# Altium schematic symbol library ICs.SchLib: 88 symbols (part 2 of 2)
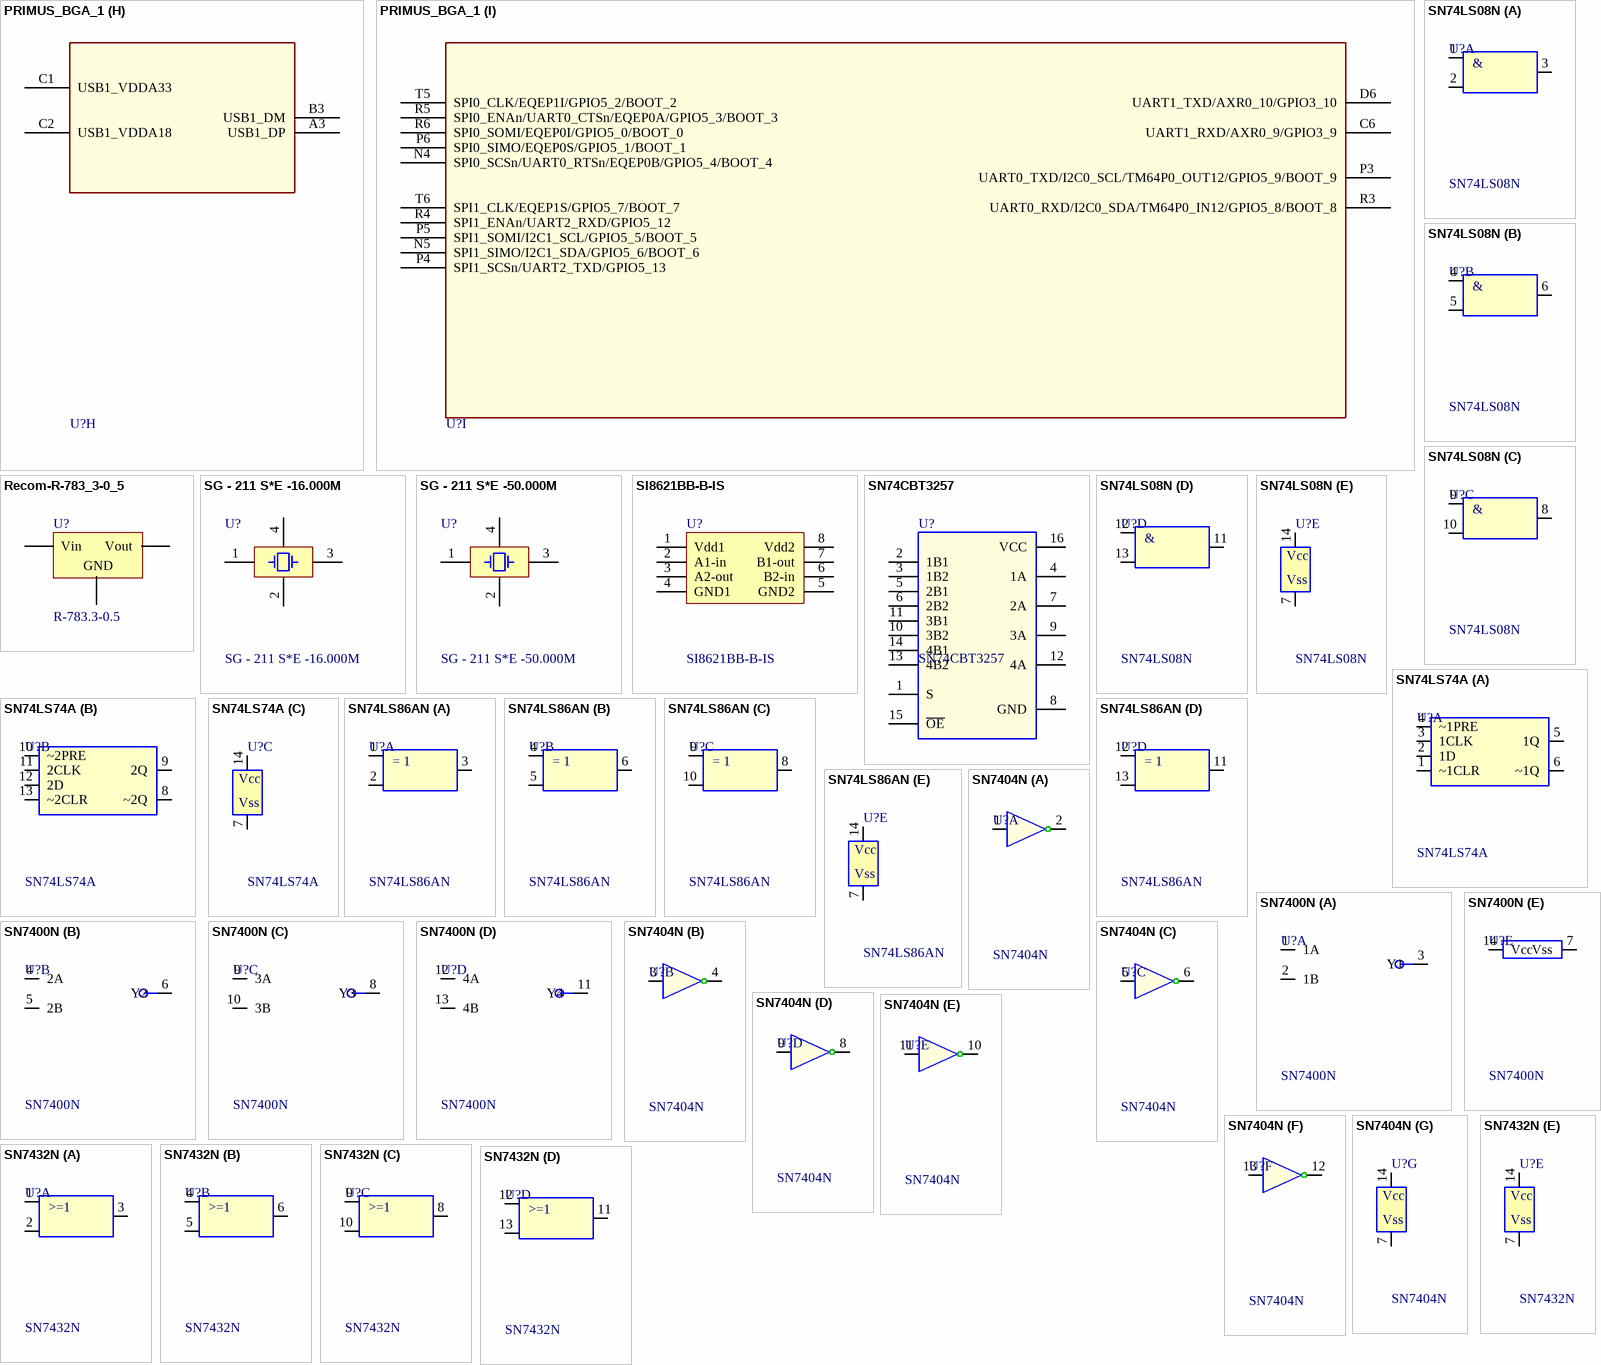
[diagram p10: symbols PRIMUS_BGA_1 to SN7432N]

## PRIMUS_BGA_1
designator U?
SWAP_INFO: (S1+S2+S3+S4+S5+S6+S7+S8+S9); SPLIT_INST: TRUE
footprint SKT256-6064
part A pins: A1 VSS.13 (power), A2 VSS.14 (power), A15 VSS.15 (power), A16 VSS.16 (power), B2 VSS.12 (power), E6 VSS.8 (power), E7 VSS.9 (power), E10 VSS.10 (power), E11 VSS.11 (power), F8 VSS.5 (power), F9 VSS.6 (power), F10 VSS.7 (power), G8 VSS.3 (power), G9 VSS.4 (power), H8 VSS.1 (power), H9 VSS.2 (power), J8 VSS.19 (power), J9 VSS.20 (power), K8 VSS.17 (power), K9 VSS.18 (power), L7 VSS.21 (power), L8 VSS.22 (power), L9 VSS.23 (power), L10 VSS.24 (power), M6 VSS.25 (power), M7 VSS.26 (power), M10 VSS.27 (power), M11 VSS.28 (power), T1 VSS.29 (power), T2 VSS.30 (power), T15 VSS.31 (power), T16 VSS.32 (power)
part B pins: B1 RSV2 (power), B16 DVDD.21 (power), D1 PLL0_VDDA (power), E1 PLL0_VSSA (power), E5 DVDD.17 (power), E8 DVDD.18 (power), E9 DVDD.19 (power), E12 DVDD.20 (power), F5 DVDD.14 (power), F6 CVDD.18 (power), F7 RSV1, F11 DVDD.15 (power), F12 DVDD.16 (power), G5 DVDD.12 (power), G6 CVDD.14 (power), G7 CVDD.15 (power), G10 CVDD.16 (power), G11 CVDD.17 (power), G12 DVDD.13 (power), H6 CVDD.19 (power), H7 CVDD.11 (power), H10 CVDD.12 (power), H11 CVDD.13 (power), H12 CVDD.20 (power), J6 CVDD.6 (power), J7 CVDD.7 (power), J10 CVDD.8 (power), J11 CVDD.9 (power), J12 CVDD.10 (power), K5 DVDD.10 (power), K6 CVDD.2 (power), K7 CVDD.3 (power), K10 CVDD.4 (power), K11 CVDD.5 (power), K12 DVDD.11 (power), L5 DVDD.7 (power), L6 CVDD.1 (power), L11 DVDD.8 (power), L12 DVDD.9 (power), M5 DVDD.3 (power), M8 DVDD.4 (power), M9 DVDD.5 (power), M12 DVDD.6 (power), R1 DVDD.1 (power), R16 DVDD.2 (power)
part C pins: L16 EMA_CASn/EMA_CS4n/GPIO2_1, M13 EMA_WE/UHPI_HRWn/AXR0_12/GPIO2_3/BOOT_14, M14 EMA_WE_DQM0n/UHPI_HINTn/AXR0_15/GPIO2_9, M15 EMA_D7/MMCSD_DAT7/UHPI_HD7/GPIO0_7/BOOT_13, M16 EMA_D15/UHPI_HD15/LCD_D15/GPIO0_15, N6 EMA_WAIT0/UHPIHRDYn/GPIO2_10, N7 EMA_RASn/EMA_CS5n/GPIO2_2, N8 EMA_A10/LCD_VSYNC/GPIO1_10, N9 EMA_A3/LCD_D6/GPIO1_3, N10 EMA_A7/LCD_D0/GPIO1_7, N11 EMA_A12/LCD_MCLK/GPIO1_12, N12 EMA_D8/UHPI_HD8/LCD_D8/GPIO0_8, N13 EMA_D6/MMCSD_DAT6/UHPI_HD6/GPIO0_6, N14 EMA_D14/UHPI_HD14/LCD_D14/GPIO0_14, N15 EMA_D5/MMCSD_DAT5/UHPI_HD5/GPIO0_5, N16 EMA_D13/UHPI_HD13/LCD_D13/GPIO0_13, P7 EMA_CS2n/UHPI_HCSn/GPIO2_5/BOOT_15, P8 EMA_BA1/LCD_D5/UHPI_HHWIL/GPIO1_13, P9 EMA_A2/MMCSD_CMD/UHPI_HCNTL1/GPIO1_2, P10 EMA_A6/LCD_D1/GPIO1_6, P11 EMA_A11/LCD_ACn/ENB_CSn/GPIO1_11, P12 EMA_WE_DQM1n/UHPI_HDS2n/AXR0_14/GPIO2_8, P13 EMA_D4/MMCSD_DAT4/UHPI_HD4/GPIO0_4, P14 EMA_D12/UHPI_HD12/LCD_D12/GPIO0_12, P15 EMA_D3/MMCSD_DAT3/UHPI_HD3/GPIO0_3, P16 EMA_D11/UHPI_HD11/LCD_D11/GPIO0_11, R7 EMA_OEn/UHPI_HDS1n/AXR0_13/GPIO2_7, R8 EMA_BA0/LCD_D4/GPIO1_14, R9 EMA_A1/MMCSD_CLK/UHPI_HCNTL0/GPIO1_1, R10 EMA_A5/LCD_D2/GPIO1_5, R11 EMA_A9/LCD_HSYNC/GPIO1_9, R12 EMA_CLK/OBSCLK/AHCLKR2/GPIO1_15, R13 EMA_D2/MMCSD_DAT2/UHPI_HD2/GPIO0_2, R14 EMA_D10/UHPI_HD_10/LCD_D10/GPIO0_10, R15 EMA_D1/MMCSD_DAT1/UHPI_HD1/GPIO0_1, T7 EMA_CS3n/AMUTE2/GPIO2_6, T8 EMA_CS0n/UHPIHASn/GPIO2_4, T9 EMA_A0/LCD_D7/GPIO1_0, T10 EMA_A4/LCD_D3/GPIO1_4, T11 EMA_A8/LCD_PCLK/GPIO1_8, T12 EMA_SDCKE/GPIO2_0, T13 EMA_D0/MMCSD_DAT0/UHPI_HD0/GPIO00/BOOT_12, T14 EMA_D9/UHPI_HD9/LCD_D9/GPIO0_9
part D pins: A8 EMB_RASn, A9 EMB_A10/GPIO7_12, A10 EMB_A3/GPIO7_5, A11 EMB_A7/GPIO7_9, A12 EMB_WE_DQM3n, A13 EMB_D24, A14 EMB_D26, B9 EMB_BA1/GPIO7_0, B10 EMB_A2/GPIO7_4, B11 EMB_A6/GPIO7_8, B12 EMB_A11/GPIO7_13, B13 EMB_WE_DQM2n, B14 EMB_D25, B15 EMB_A12/GPIO3_13, C9 EMB_BA0/GPIO7_1, C10 EMB_A1/GPIO7_3, C11 EMB_A5/GPIO7_7, C12 EMB_A9/GPIO7_11, C13 EMB_SDCKE, C14 EMB_CLK, C15 EMB_WE_DQM1n/GPIO5_14, C16 EMB_D8/GPIO6_8, D9 EMB_CS0n, D10 EMB_A0/GPIO7_2, D11 EMB_A4/GPIO7_6, D12 EMB_A8/GPIO7_10, D13 EMB_D9/GPIO6_9, D14 EMB_D10/GPIO6_10, D15 EMB_D11/GPIO6_11, D16 EMB_D12/GPIO6_12, E13 EMB_D13/GPIO6_13, E14 EMB_D27, E15 EMB_D28, E16 EMB_D14/GPIO6_14, F13 EMB_D15/GPIO6_15, F14 EMB_D29, F15 EMB_D30, F16 EMB_D0/GPIO6_0, G13 EMB_D1/GPIO6_1, G14 EMB_D31, G15 EMB_D16, G16 EMB_D2/GPIO6_2, H13 EMB_D3/GPIO6_3, H14 EMB_D17, H15 EMB_D18, H16 EMB_D4/GPIO6_4, J13 EMB_D5/GPIO6_5, J14 EMB_D19, J15 EMB_D6/GPIO6_6, J16 EMB_D7/GPIO6_7, K13 EMB_D20, K14 EMB_WE_DQM0n/GPIO5_15, K15 EMB_WEn, K16 EMB_D21, L13 EMB_CASn, L14 EMB_D22, L15 EMB_D23
part E pins: E2 OSCVSS (power), F1 OSCOUT, F2 OSCIN, G1 RTC_CVDD (power), G2 RTC_VSS (power), G3 ~{RESET}, H1 RTC_XI, H2 RTC_XO, H3 TCK, J1 TMS, J2 TDI, J3 TDO, J4 ~{TRST}, J5 EMU_0/GPIO7_15, K1 RTCK/GPIO7_14
part F pins: A4 AHCLKR0/RMII_MHZ_50CLK/GPIO2_14/BOOT_11, A5 AXR0_11/AXR2_0/GPIO3_11, A6 AXR0_7/MDIO_CLK/GPIO3_7, A7 AXR0_3/RMII_CRS_DV/AXR2_2/GPIO3_3, B4 ACLKR0/ECAP1/APWM1/GPIO2_15, B5 AHCLKX0/AHCLKX2/USB_REFCLKIN/GPIO2_11, B6 AXR0_8/MDIO_D/GPIO3_8, B7 AXR0_4/RMII_RXD_0/AXR2_1/GPIO3_4, B8 AXR0_0/RMII_TXD0/AFSR2/GPIO3_0, C4 AFSR0/GPIO3_12, C5 ACLKX0/ECAP0/APWM0/GPIO2_12, C7 AXR0_5/RMII_RXD1/AFSX2/GPIO3_5, C8 AXR0_1/RMII_TXD1/ACLKX2/GPIO3_1, D4 AMUTE1/EHRPWMTZ/GPIO4_14, D5 AFSX0/GPIO2_13/BOOT_10, D7 AXR0_6/RMII_RXER/ACLKR2/GPIO3_6, D8 AXR0_2/RMII_TXEN/AXR2_3/GPIO3_2, K2 AHCLKX1/EPWM0B/GPIO3_14, K3 ACLKX1/EPWM0A/GPIO3_15, K4 AFSX1/EPWMSYNCI/EPWMSYNC0/GPIO4_10, L1 AHCLKR1/GPIO4_11, L2 ACLKR1/ECAP2/APWM2/GPIO4_12, L3 AFSR1/GPIO4_13, L4 AMUTE0__~{RESETOUT}, M1 AXR1_9/GPIO4_9, M2 AXR1_8/EPWM1A/GPIO4_8, M3 AXR1_7/EPWM1B/GPIO4_7, M4 AXR1_6/EPWM2A/GPIO4_6, N1 AXR1_5/EPWM2B/GPIO4_5, N2 AXR1_4/EQEP1B/GPIO4_4, N3 AXR1_10__GPIO5_10, P1 AXR1_3/EQEP1A/GPIO4_3, P2 AXR1_2/GPIO4_2, R2 AXR1_1/GPIO4_1, T3 AXR1_0/GPIO4_0, T4 AXR1_11/GPIO5_11
part G pins: C3 USB0_VDDA12, D2 USB0_ID, D3 USB0_VBUS, E3 USB0_VDDA18, E4 USB0_DRVVBUS/GPIO4_15, F3 USB0_VSSA, F4 USB0_DP, G4 USB0_DM, H4 USB0_VSSA33, H5 USB0_VDDA33
part H pins: A3 USB1_DP, B3 USB1_DM, C1 USB1_VDDA33, C2 USB1_VDDA18
part I pins: C6 UART1_RXD/AXR0_9/GPIO3_9, D6 UART1_TXD/AXR0_10/GPIO3_10, N4 SPI0_SCSn/UART0_RTSn/EQEP0B/GPIO5_4/BOOT_4, N5 SPI1_SIMO/I2C1_SDA/GPIO5_6/BOOT_6, P3 UART0_TXD/I2C0_SCL/TM64P0_OUT12/GPIO5_9/BOOT_9, P4 SPI1_SCSn/UART2_TXD/GPIO5_13, P5 SPI1_SOMI/I2C1_SCL/GPIO5_5/BOOT_5, P6 SPI0_SIMO/EQEP0S/GPIO5_1/BOOT_1, R3 UART0_RXD/I2C0_SDA/TM64P0_IN12/GPIO5_8/BOOT_8, R4 SPI1_ENAn/UART2_RXD/GPIO5_12, R5 SPI0_ENAn/UART0_CTSn/EQEP0A/GPIO5_3/BOOT_3, R6 SPI0_SOMI/EQEP0I/GPIO5_0/BOOT_0, T5 SPI0_CLK/EQEP1I/GPIO5_2/BOOT_2, T6 SPI1_CLK/EQEP1S/GPIO5_7/BOOT_7

## Recom-R-783_3-0_5
designator U?, comment R-783.3-0.5
Voltage Regulator; Manufacturer: Recom; Deliverer PartNr: 532-8044; TDE-PN: IC0032; Deliverer: RS-Components; Published: 12.02.2014; Manufacturer PartNr: R-783.3-0.5; PackageDescription: R-783_3-0_5/D-PACK; Publisher: Sebastian Kulik
footprint R-783_3-0_5 (Recon DC-DC)
pins: 1 Vin, 2 GND, 3 Vout

## SG - 211 S*E -16.000M
designator U?
Crystal; Deliverer PartNr: 2405755; Manufacturer PartNr: X1G0036210032; Manufacturer: Epson; Deliverer: Farnell; TDE-PN: IC0061; Published: 11.12.2014; PackageDescription: SG-221 S*E; Publisher: Sebastian Kulik
footprint SG - 211 S*E
pins: 1 E/D, 2 GND, 3 OSC2, 4 VCC

## SG - 211 S*E -50.000M
designator U?
Crystal; Deliverer PartNr: 2405766RL; Manufacturer PartNr: X1G0036210074; Manufacturer: Epson; Deliverer: Farnell; TDE-PN: IC0050; Published: 26.05.2014; PackageDescription: SG-221 S*E; Publisher: Sebastian Kulik
footprint SG - 211 S*E
pins: 1 E/D, 2 GND, 3 OSC2, 4 VCC

## SI8621BB-B-IS
designator U?
Digital isolator; Deliverer PartNr: 2423246; Manufacturer: Silicon Labs; Deliverer: Farnell; TDE-PN: IC0062; Published: 15.12.2014; PackageDescription: TSSOP8; Publisher: Sebastian Kulik; Manufacturer PartNr: SI8621BB-B-IS
footprint SOIC8_N (SOIC, 8-Leads, Body 4.9x3.9mm, Pitch 1.27mm, IPC Medium Density)
pins: 1 Vdd1, 2 A1-in, 3 A2-out, 4 GND1, 5 GND2, 6 B2-in, 7 B1-out, 8 Vdd2 (power)

## SN74CBT3257
designator U?
LV 4BIT FET MUX/DEMUX; Deliverer PartNr: 1740177; Manufacturer PartNr: SN74CBTLV3257D; Manufacturer: TI; Deliverer: Farnell; TDE-PN: IC00082; Published: 16.08.2016; PackageDescription: SOP16; Publisher: Sebastian Kulik; Price: 0.977/1
footprint SOIC16_N (SOIC, 16-Leads, Body 9.9x3.9mm, Pitch 1.27mm, IPC Medium Density)
footprint SO-16_M (SOIC, 16-Leads, Body 9.9x3.9mm, Pitch 1.27mm, IPC Low Density)
footprint SO-16_L (SOIC, 16-Leads, Body 9.9x3.9mm, Pitch 1.27mm, IPC High Density)
pins: 1 S, 2 1B1, 3 1B2, 4 1A, 5 2B1, 6 2B2, 7 2A, 8 GND, 9 3A, 10 3B2, 11 3B1, 12 4A, 13 4B2, 14 4B1, 15 ~{OE}, 16 VCC

## SN74LS08N
designator U?
Quad AND, TTL; Deliverer PartNr: 307-519; Manufacturer: TI; Deliverer: RS; TDE-PN: IC0088; Published: 24.11.2016; PackageDescription: DIP14; Publisher: Sebastian Kulik; Manufacturer PartNr: SN74LS08N; Price: 0.56
footprint DIP-14 (DIP; 14 Leads; Row Spacing 7.62 mm; Pitch 2.54 mm)
part A pins: 1 1A, 2 1B, 3 Y1
part B pins: 4 2A, 5 2B, 6 Y2
part C pins: 8 Y3, 9 3A, 10 3B
part D pins: 11 Y4, 12 4A, 13 4B
part E pins: 7 Vss, 14 Vcc
part A text: &
part B text: &
part C text: &
part D text: &

## SN74LS74A
designator U?
Flip-Flop Dual, TTL; Deliverer PartNr: 307-597; Manufacturer PartNr: SN74LS74AN; Manufacturer: TI; Deliverer: RS; TDE-PN: IC0089; Published: 24.11.2016; PackageDescription: DIP14; Publisher: Sebastian Kulik; Price: 0.48
footprint DIP-14 (DIP; 14 Leads; Row Spacing 7.62 mm; Pitch 2.54 mm)
part A pins: 1 ~1CLR, 2 1D, 3 1CLK, 4 ~1PRE, 5 1Q, 6 ~1Q
part B pins: 8 ~2Q, 9 2Q, 10 ~2PRE, 11 2CLK, 12 2D, 13 ~2CLR
part C pins: 7 Vss, 14 Vcc

## SN74LS86AN
designator U?
Quad 2-input exclusive-OR gates; Deliverer PartNr: 304-093; Manufacturer: TI; Deliverer: RS; TDE-PN: IC0091; Published: 12.12.2016; PackageDescription: DIP14; Publisher: Sebastian Kulik; Manufacturer PartNr: SN74LS86AN; Price: 2.26/1
footprint DIP-14 (DIP; 14 Leads; Row Spacing 7.62 mm; Pitch 2.54 mm)
part A pins: 1 1A, 2 1B, 3 Y1
part B pins: 4 2A, 5 2B, 6 Y2
part C pins: 8 Y3, 9 3A, 10 3B
part D pins: 11 Y4, 12 4A, 13 4B
part E pins: 7 Vss, 14 Vcc

## SN7400N
designator U?
Quad NAND, TTL; Deliverer PartNr: 305-490; Manufacturer: TI; Deliverer: RS; TDE-PN: IC0076; Published: 13.05.2016; PackageDescription: SOIC28; Publisher: Sebastian Kulik; Manufacturer PartNr: SN7400N; Price: 1.45
footprint DIP-14 (DIP; 14 Leads; Row Spacing 7.62 mm; Pitch 2.54 mm)
part A pins: 1 1A, 2 1B, 3 Y1
part B pins: 4 2A, 5 2B, 6 Y2
part C pins: 8 Y3, 9 3A, 10 3B
part D pins: 11 Y4, 12 4A, 13 4B
part E pins: 7 Vss, 14 Vcc

## SN7404N
designator U?
Hex Inverter TTL; Deliverer PartNr: 305-529; Manufacturer: TI; Deliverer: RS; TDE-PN: IC0086; Published: 24.11.2016; PackageDescription: DIP14; Publisher: Sebastian Kulik; Manufacturer PartNr: SN7404N; Price: 1
footprint DIP-14 (DIP; 14 Leads; Row Spacing 7.62 mm; Pitch 2.54 mm)
part A pins: 1 1A, 2 1Y
part B pins: 3 2A, 4 2Y
part C pins: 5 3A, 6 3Y
part D pins: 8 Y4, 9 4A
part E pins: 10 5Y, 11 5A
part F pins: 12 6Y, 13 6A
part G pins: 7 Vss, 14 Vcc

## SN7432N
designator U?
Quad NAND, TTL; Deliverer PartNr: 304-093; Manufacturer: TI; Deliverer: RS; TDE-PN: IC0087; Published: 24.11.2016; PackageDescription: DIP14; Publisher: Sebastian Kulik; Manufacturer PartNr: SN7432N; Price: 1.24
footprint DIP-14 (DIP; 14 Leads; Row Spacing 7.62 mm; Pitch 2.54 mm)
part A pins: 1 1A, 2 1B, 3 Y1
part B pins: 4 2A, 5 2B, 6 Y2
part C pins: 8 Y3, 9 3A, 10 3B
part D pins: 11 Y4, 12 4A, 13 4B
part E pins: 7 Vss, 14 Vcc
part A text: >=1
part B text: >=1
part C text: >=1
part D text: >=1

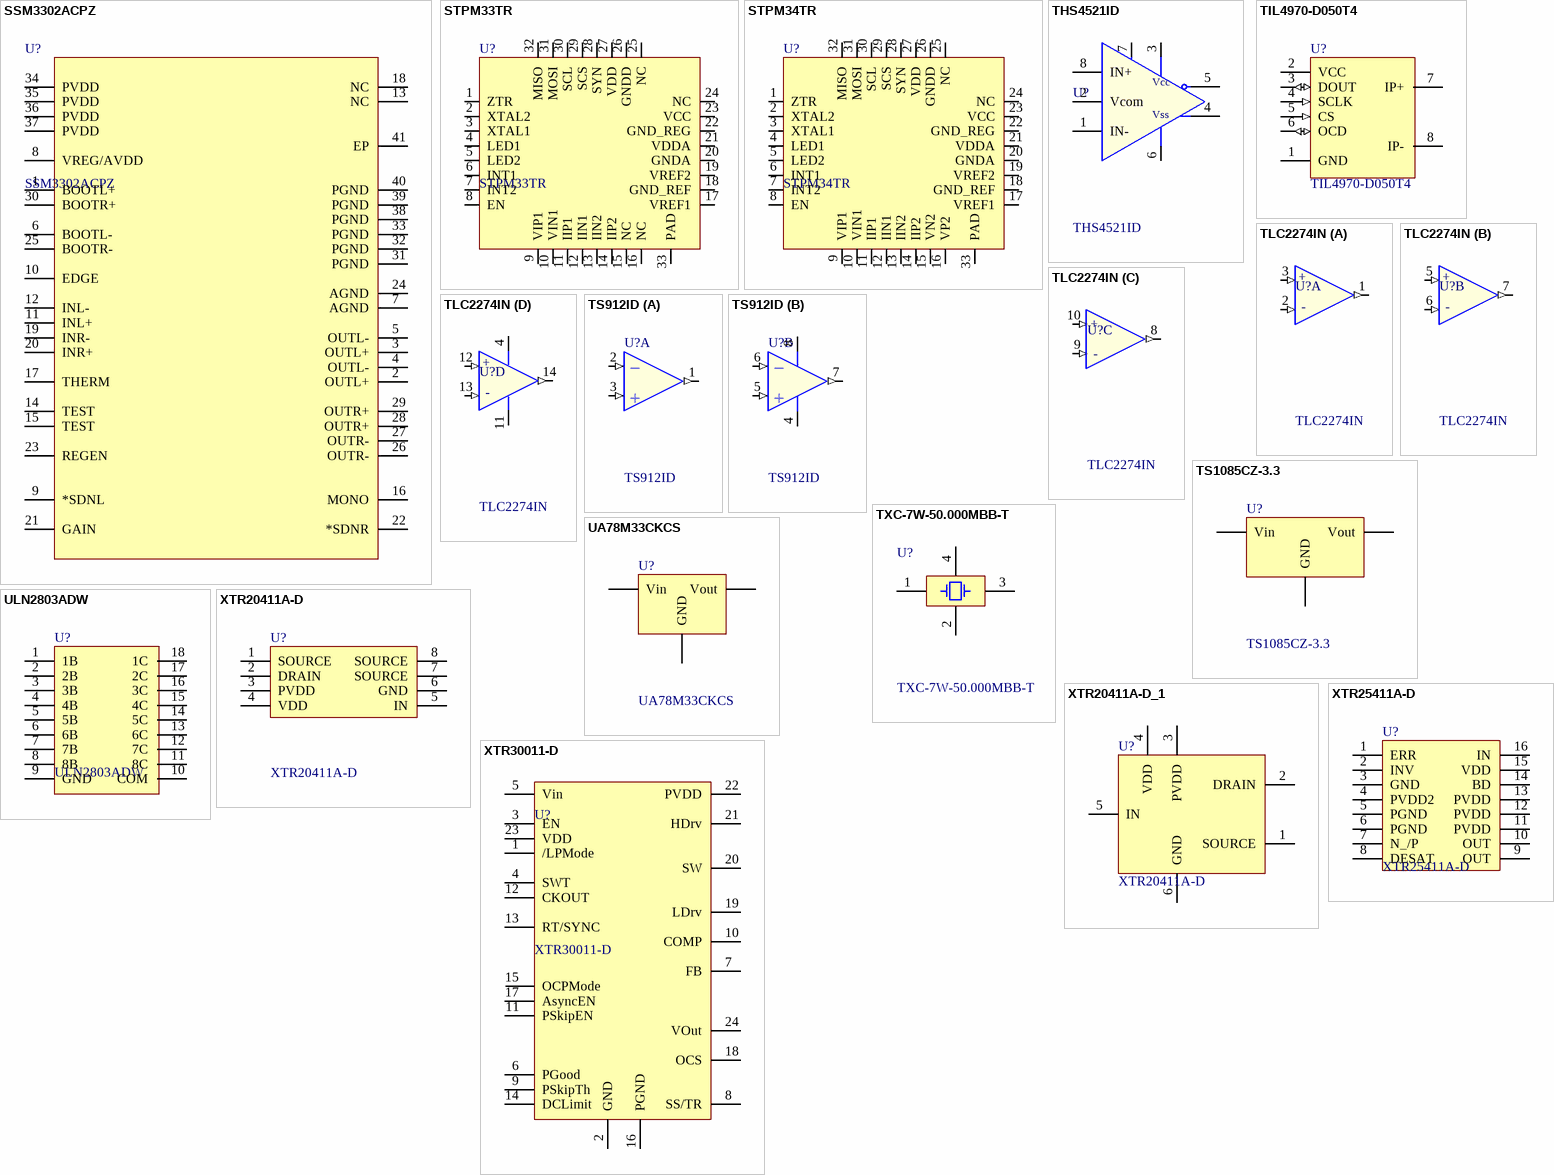
[diagram p9: symbols SSM3302ACPZ to XTR30011-D]

## SSM3302ACPZ
designator U?
digital power amp, audio; Deliverer PartNr: 2099721; Manufacturer: ADI; Deliverer: Farnell; TDE-PN: IC0025; Published: 26.03.2014; PackageDescription: LFCSP-WQ-40; Publisher: Sebastian Kulik; Manufacturer PartNr: SSM3302ACPZ
footprint LFCSP-WQ-40
pins: 1 BOOTL+, 2 OUTL+, 3 OUTL+, 4 OUTL-, 5 OUTL-, 6 BOOTL-, 7 AGND, 8 VREG/AVDD, 9 *SDNL, 10 EDGE, 11 INL+, 12 INL-, 13 NC, 14 TEST, 15 TEST, 16 MONO, 17 THERM, 18 NC, 19 INR-, 20 INR+, 21 GAIN, 22 *SDNR, 23 REGEN, 24 AGND, 25 BOOTR-, 26 OUTR-, 27 OUTR-, 28 OUTR+, 29 OUTR+, 30 BOOTR+, 31 PGND, 32 PGND, 33 PGND, 34 PVDD, 35 PVDD, 36 PVDD, 37 PVDD, 38 PGND, 39 PGND, 40 PGND, 41 EP

## STPM33TR
designator U?
1 phase voltage/current measuring device; Manufacturer: STMicro; Deliverer: EBV; TDE-PN: IC0060; Published: 10.12.2014; Deliverer PartNr: STPM33TR; PackageDescription: QFN32L; Publisher: Sebastian Kulik; Manufacturer PartNr: STPM33TR
footprint QFN32_L (32-Pin Quad Flat Pack 0.5 mm Pitch, IPC High Density)
footprint QFN32_L-Vias (32-Pin Quad Flat Pack 0.5 mm Pitch, IPC High Density)
pins: 1 ZTR, 2 XTAL2, 3 XTAL1, 4 LED1, 5 LED2, 6 INT1, 7 INT2, 8 EN (power), 9 VIP1, 10 VIN1, 11 IIP1, 12 IIN1, 13 IIN2, 14 IIP2, 15 NC, 16 NC (power), 17 VREF1, 18 GND_REF, 19 VREF2, 20 GNDA, 21 VDDA, 22 GND_REG, 23 VCC, 24 NC (power), 25 NC, 26 GNDD, 27 VDD, 28 SYN, 29 SCS, 30 SCL, 31 MOSI, 32 MISO (power), 33 PAD (power)

## STPM34TR
designator U?
2 phase voltage/current measuring device; Manufacturer: STMicro; Deliverer: EBV; TDE-PN: IC0064; Published: 10.12.2014; Deliverer PartNr: STPM34TR; PackageDescription: QFN32L; Publisher: Sebastian Kulik; Manufacturer PartNr: STPM34TR
footprint QFN32_L (32-Pin Quad Flat Pack 0.5 mm Pitch, IPC High Density)
footprint QFN32_L-Vias (32-Pin Quad Flat Pack 0.5 mm Pitch, IPC High Density)
pins: 1 ZTR, 2 XTAL2, 3 XTAL1, 4 LED1, 5 LED2, 6 INT1, 7 INT2, 8 EN (power), 9 VIP1, 10 VIN1, 11 IIP1, 12 IIN1, 13 IIN2, 14 IIP2, 15 VN2, 16 VP2 (power), 17 VREF1, 18 GND_REF, 19 VREF2, 20 GNDA, 21 VDDA, 22 GND_REG, 23 VCC, 24 NC (power), 25 NC, 26 GNDD, 27 VDD, 28 SYN, 29 SCS, 30 SCL, 31 MOSI, 32 MISO (power), 33 PAD (power)

## THS4521ID
designator U?
Fully differential OP, 50MHz; Deliverer PartNr: 709-2867; Manufacturer: TI; Deliverer: RS; TDE-PN: IC00073; Published: 15.04.2016; PackageDescription: TSSOP8; Publisher: Sebastian Kulik; Manufacturer PartNr: THS4521ID; Price: 3.29
footprint TSSOP8 (Shrink Small Outline, Plastic, Thin; 8 Leads; Body Width 4.4 mm; Pitch 0.65 mm)
footprint SOIC8_N (SOIC, 8-Leads, Body 4.9x3.9mm, Pitch 1.27mm, IPC Medium Density)
footprint SOP8_L (SOIC, 8-Leads, Body 4.9x3.9mm, Pitch 1.27mm, IPC High Density)
pins: 1 IN-, 2 Vcom, 3 Vcc, 4 OUT-, 5 OUT+ (power), 6 Vss, 7 PD, 8 IN+ (power)

## TIL4970-D050T4
designator U?
Current sensor, SPI; Deliverer PartNr: TLI4970-D050T4; Manufacturer: Infenion; Deliverer: EBV; TDE-PN: IC0045; Published: 28.04.2014; PackageDescription: TISON-8-1; Publisher: Sebastian Kulik; Manufacturer PartNr: TLI4970-D050T4
footprint TISON-8-1
pins: 1 GND (power), 2 VCC (power), 3 DOUT (io), 4 SCLK (in), 5 CS (in), 6 OCD (io), 7 IP+ (power), 8 IP- (power)

## TLC2274IN
designator U?
Reel to Reel  quad OP; Deliverer PartNr: 331-2182; Manufacturer: TI; Deliverer: RS; TDE-PN: IC0072; Published: 28.03.2014; PackageDescription: TSSOP8; Publisher: Sebastian Kulik; Manufacturer PartNr: TLC2274IN
footprint DIP-14 (DIP; 14 Leads; Row Spacing 7.62 mm; Pitch 2.54 mm)
part A pins: 1 OUT (out), 2 IN+ (in), 3 IN- (in)
part B pins: 5 IN- (in), 6 IN+ (in), 7 OUT (out)
part C pins: 8 OUT (out), 9 IN+ (in), 10 IN- (in)
part D pins: 4 V+ (power), 11 V- (power), 12 IN- (in), 13 IN+ (in), 14 OUT (out)
part A text: +; -
part B text: +; -
part C text: +; -
part D text: +; -

## TS912ID
designator U?
Reel to Reel  dual OP; Deliverer PartNr: 1094386; Manufacturer: ST; Deliverer: Farnell; TDE-PN: IC0027; Published: 28.03.2014; PackageDescription: TSSOP8; Publisher: Sebastian Kulik; Manufacturer PartNr: TS912ID
footprint SOP8_L (SOIC, 8-Leads, Body 4.9x3.9mm, Pitch 1.27mm, IPC High Density)
part A pins: 1 OUT (out), 2 IN- (in), 3 IN+ (in)
part B pins: 4 V- (power), 5 IN+ (in), 6 IN- (in), 7 OUT (out), 8 V+ (power)

## TS1085CZ-3.3
designator U?
LDO, 3.3V; Deliverer PartNr: 7208286; Manufacturer: Taiwan Semi; Deliverer: Farnell; TDE-PN: IC0056; Published: 04.11.2014; PackageDescription: TS1084_HOCH; Publisher: Sebastian Kulik; Manufacturer PartNr: TS1085CZ-3.3
footprint TS1084_HOCH
pins: GND, IN Vin, OUT Vout (power)

## TXC-7W-50.000MBB-T
designator U?
Crystal; Deliverer PartNr: 1842144; Manufacturer: TXC; Deliverer: Farnell; TDE-PN: IC0037; Published: 17.02.2014; PackageDescription: TXC_7W; Publisher: Sebastian Kulik; Manufacturer PartNr: 7W-50.000MBB-T
footprint TXC_7W
pins: 1 E/D, 2 GND, 3 OSC2, 4 VCC

## UA78M33CKCS
designator U?
LDO, 3.3V; Deliverer PartNr: 595-UA78M33CKCS; Manufacturer: TI; Deliverer: Mouser; TDE-PN: IC0059; Published: 11.11.2014; PackageDescription: TO220-3; Publisher: Sebastian Kulik; Manufacturer PartNr: UA78M33CKCS
footprint TO220-3
pins: GND, VIN Vin, VOUT Vout (power)

## ULN2803ADW
designator U?
Darlington array, 50V; Deliverer PartNr: 1652419; Manufacturer: TI; Deliverer: Farnell; TDE-PN: IC0043; Published: 13.03.2014; PackageDescription: SOIC18-WIDE; Publisher: Sebastian Kulik; Manufacturer PartNr: ULN2803ADW
footprint SOIC18-WIDE (SOIC, 18-Leads)
pins: 1 1B, 2 2B, 3 3B, 4 4B, 5 5B, 6 6B, 7 7B, 8 8B, 9 GND, 10 COM, 11 8C, 12 7C, 13 6C, 14 5C, 15 4C, 16 3C, 17 2C, 18 1C

## XTR20411A-D
designator U?
Gate driver; Manufacturer: X-Rel; Deliverer: ProTec; TDE-PN: IC0068; Published: 08.12.2015; Deliverer PartNr: XTR20411A-D; PackageDescription: DIP-8-Ceramic-HT; Publisher: Sebastian Kulik; Manufacturer PartNr: XTR20411A-D
footprint DIP-8-Ceramic-HT (DIP; 8 Leads; Row Spacing 7.62 mm; Pitch 2.54 mm)
pins: 1 SOURCE, 2 DRAIN, 3 PVDD, 4 VDD, 5 IN, 6 GND, 7 SOURCE, 8 SOURCE

## XTR20411A-D_1
designator U?, comment XTR20411A-D
Gate driver; Manufacturer: X-Rel; Deliverer: ProTec; TDE-PN: IC0068; Published: 08.12.2015; Deliverer PartNr: XTR20411A-D; PackageDescription: DIP-8-Ceramic-HT; Publisher: Sebastian Kulik; Manufacturer PartNr: XTR20411A-D
footprint DIP-8-Ceramic-HT - duplicate (DIP; 8 Leads; Row Spacing 7.62 mm; Pitch 2.54 mm)
pins: 1 SOURCE, 2 DRAIN, 3 PVDD, 4 VDD, 5 IN, 6 GND

## XTR25411A-D
designator U?
Gate driver; Manufacturer: X-Rel; Deliverer: ProTec; TDE-PN: IC0067; Published: 08.12.2015; Deliverer PartNr: XTR25411A-D; PackageDescription: DIP-16-Ceramic-HT; Publisher: Sebastian Kulik; Manufacturer PartNr: XTR25411A-D
footprint DIP-16-Ceramic-HT (Footprint not found)
pins: 1 ERR, 2 INV, 3 GND, 4 PVDD2, 5 PGND, 6 PGND, 7 N_/P, 8 DESAT, 9 OUT, 10 OUT, 11 PVDD, 12 PVDD, 13 PVDD, 14 BD, 15 VDD, 16 IN

## XTR30011-D
designator U?
HT PWM controller; Manufacturer: X-Rel; Deliverer: ProTec; TDE-PN: IC0071; Published: 16.02.2016; Deliverer PartNr: XTR30011-D; PackageDescription: DIP24; Publisher: Sebastian Kulik; Manufacturer PartNr: XTR30011-D
footprint DIP-24-Ceramic-HT (DIP; 24 Leads; Row Spacing 7.62 mm; Pitch 2.54 mm)
pins: 1 /LPMode, 2 GND, 3 EN, 4 SWT, 5 Vin, 6 PGood (power), 7 FB, 8 SS/TR, 9 PSkipTh (power), 10 COMP, 11 PSkipEN (power), 12 CKOUT, 13 RT/SYNC, 14 DCLimit (power), 15 OCPMode (power), 16 PGND, 17 AsyncEN (power), 18 OCS, 19 LDrv, 20 SW, 21 HDrv, 22 PVDD, 23 VDD, 24 VOut